# EAGLE library part ECC81_83 (library E88CC)
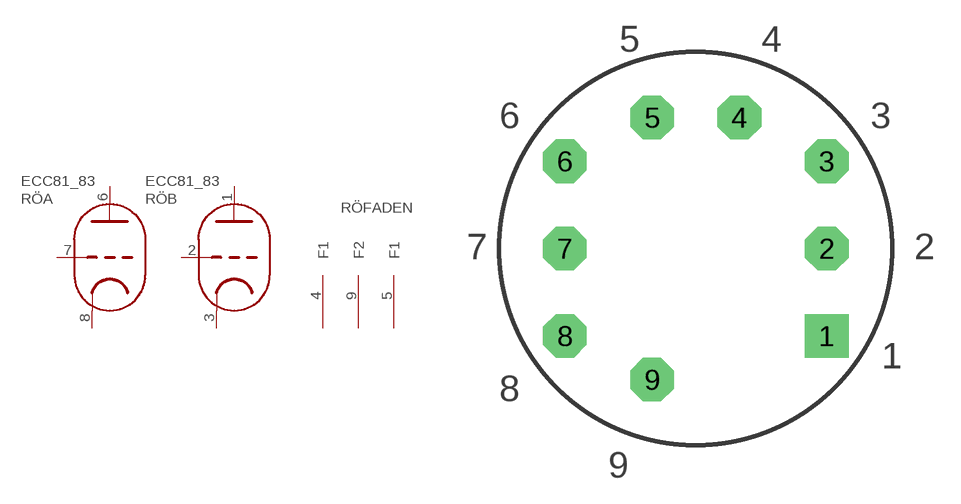
[diagram p3: symbol with the pads of NOVAL_P; footprint NOVAL_P]

Designator prefix RÖ; gates A=TRIODE B=TRIODE FADEN=FADEN_M

## ECC81_83  [NOVAL_P]
1  B:A  out
2  B:G  in
3  B:K
4  FADEN:F1  pwr
5  FADEN:F1  pwr
6  A:A  out
7  A:G  in
8  A:K
9  FADEN:F2  pwr

## Footprint NOVAL_P (pad centres in mm)
drill 1 pad 2.54 square: 1 7.62,-5.08
drill 1 pad 2.54 octagon: 2 7.62,0; 3 7.62,5.08; 4 2.54,7.62; 5 -2.54,7.62; 6 -7.62,5.08; 7 -7.62,0; 8 -7.62,-5.08; 9 -2.54,-7.62